# Altium schematic symbol library MPU6050模块.SchLib: 1 symbol
Pins are listed as number, name and electrical type; pins without a type are passive.

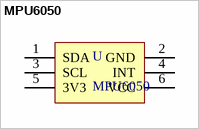
[diagram p0: symbol MPU6050]

## MPU6050
designator U
模块
footprint MPU6050 (单模块)
pins: 1 SDA, 2 GND, 3 SCL, 4 INT, 5 3V3, 6 VCC